# Altium footprint library ESP8266-12F.PcbLib: 1 footprints
Each footprint in its own frame and in the unit in brackets; x right, y up, seen from the top. Pads: shape width x height; smd on the part's side, far side on the other; paste and mask are expansions set on the pad; w line width, h text height; cw(c..) or ccw(c..) is an arc to the next point about the centre after c.
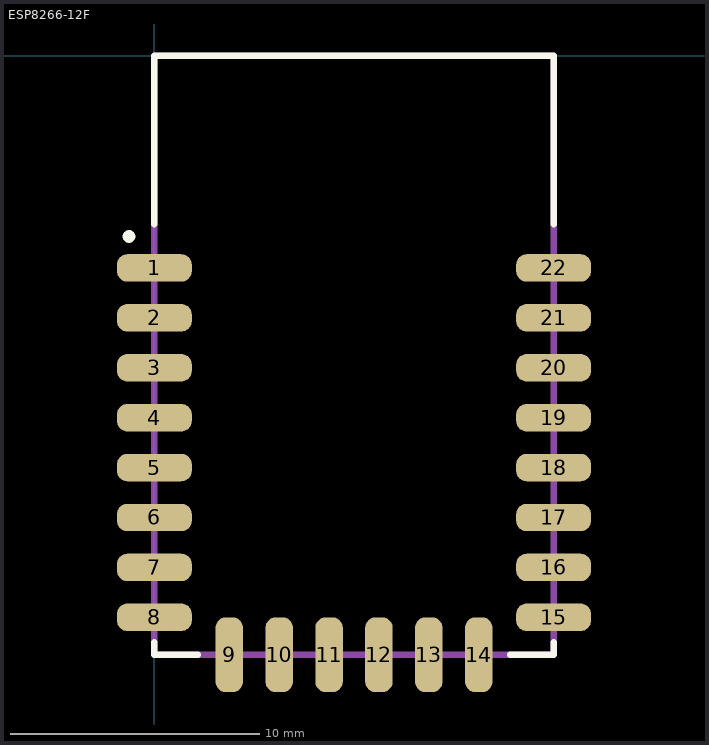
[diagram p0: the footprint, top view; thin cyan lines are the x and y axes]

## ESP8266-12F [mm]
pads (22):
  rrect75% 3x1.1 smd: 1(0,-8.5) 2(0,-10.5) 3(0,-12.5) 4(0,-14.5) 5(0,-16.5) 6(0,-18.5) 7(0,-20.5) 8(0,-22.5) 15(16,-22.5) 16(16,-20.5) 17(16,-18.5) 18(16,-16.5) 19(16,-14.5) 20(16,-12.5) 21(16,-10.5) 22(16,-8.5)
  rrect75% 1.1x3 smd: 9(3,-24) 10(5,-24) 11(7,-24) 12(9,-24) 13(11,-24) 14(13,-24)
Top Overlay:
  circle w0.254: c-1.016,-7.239 r0.127
  lines w0.254: 0,-23.5 0,-24 1.75,-24 ; 0,-6.75 0,0 16,0 16,-6.75 ; 14.25,-24 16,-24 16,-23.5
TopAssy:
  lines w0.254: 0,-24 0,0 16,0 16,-24 0,-24
3D body "User Library-ESP8266-12E.STEP": height 3.1, standoff 0.1, extent 0,-23.94 16,0.44